# Altium schematic symbol library E73-2G4M04S1B.SchLib: 1 symbol
Pins are listed as number, name and electrical type; pins without a type are passive.

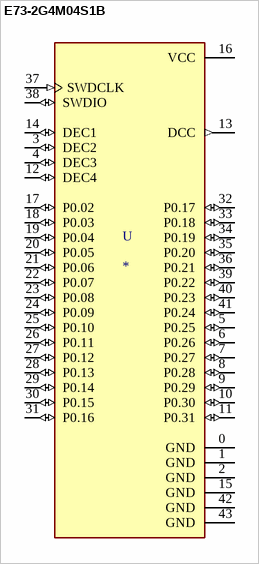
[diagram p0: symbol E73-2G4M04S1B]

## E73-2G4M04S1B
designator U
nRF52832 BLE 4.2/5.0 SMD Wireless Module; MP: E73-2G4M04S1B; MF: EBYTE; Availability: Unavailable; Price: None; Package: Package; Value: *; SnapEDA_Link: https://www.snapeda.com/parts/E73-2G4M04S1B/EBYTE/view-part/4219264/?ref=snap
footprint XCVR_E73-2G4M04S1B
pins: 0 GND (power), 1 GND (power), 2 GND (power), 3 DEC2 (io), 4 DEC3 (io), 5 P0.25 (io), 6 P0.26 (io), 7 P0.27 (io), 8 P0.28 (io), 9 P0.29 (io), 10 P0.30 (io), 11 P0.31 (io), 12 DEC4 (io), 13 DCC (out), 14 DEC1 (io), 15 GND (power), 16 VCC (power), 17 P0.02 (io), 18 P0.03 (io), 19 P0.04 (io), 20 P0.05 (io), 21 P0.06 (io), 22 P0.07 (io), 23 P0.08 (io), 24 P0.09 (io), 25 P0.10 (io), 26 P0.11 (io), 27 P0.12 (io), 28 P0.13 (io), 29 P0.14 (io), 30 P0.15 (io), 31 P0.16 (io), 32 P0.17 (io), 33 P0.18 (io), 34 P0.19 (io), 35 P0.20 (io), 36 P0.21 (io), 37 SWDCLK (in), 38 SWDIO (io), 39 P0.22 (io), 40 P0.23 (io), 41 P0.24 (io), 42 GND (power), 43 GND (power)